# EAGLE library part DCM4623TD2K13E0T00 (library DCM4623TD2K13E0T00)
Isolated DC/DC Converters 4623 DCM 270Vin 12V 500W Source: Datasheet <http://www.vicorpower.com/documents/datasheets/DCM4623xD2K13E0yzz_ds.pdf>
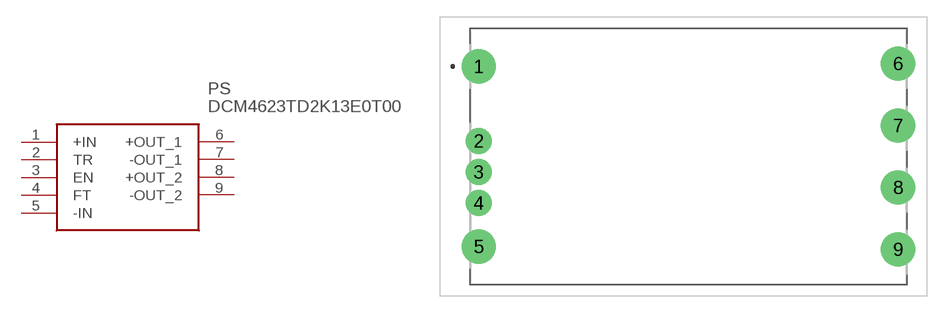
[diagram p0: symbol with the pads of DCM3623T36G31C2M00; footprint DCM3623T36G31C2M00]

Designator prefix PS

## DCM4623TD2K13E0T00 (Description: Isolated DC/DC Converters 4623 DCM 270Vin 12V 500W; Height: mm; Manufacturer_Name: VICOR; Manufacturer_Part_Number: DCM4623TD2K13E0T00; Mouser_Part_Number: 492-DCM4623TD2K13E0T; Mouser_Price-Stock: https://www.mouser.com/Search/Refine.aspx?Keyword=492-DCM4623TD2K13E0T)  [DCM3623T36G31C2M00]
1  +IN
2  TR
3  EN
4  FT
5  -IN
6  +OUT_1
7  -OUT_1
8  +OUT_2
9  -OUT_2

## Footprint DCM3623T36G31C2M00 (pad centres in mm)
DCM MODULE
drill 2.03 pad 3.045: 1 -17.78,8; 5 -17.78,-8; 6 19.42,8.25; 7 19.42,2.75; 8 19.42,-2.75; 9 19.42,-8.25
drill 1.52 pad 2.28: 2 -17.78,1.38; 3 -17.78,-1.38; 4 -17.78,-4.13